# EAGLE library part 16PIN_8X2 (library connector)
2.54mm pitch 8x2 pin Connector (Available as Headers or Pins)
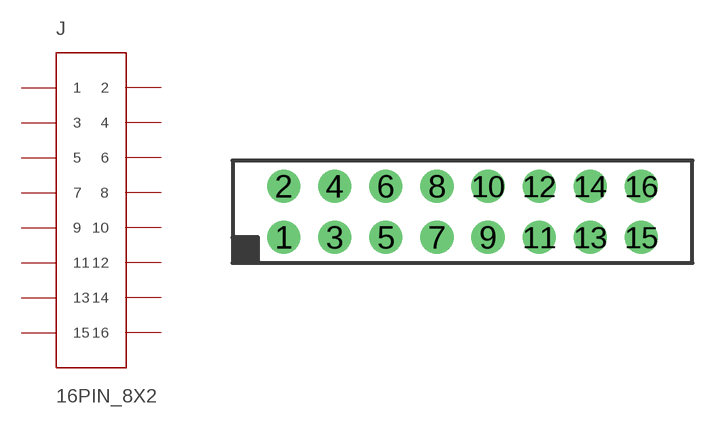
[diagram p3: symbol with the pads of 16PIN_4X2(2.54); footprint 16PIN_4X2(2.54)]

Designator prefix J

## 16PIN_8X2(2.54)  [16PIN_4X2(2.54)]
1  1
2  2
3  3
4  4
5  5
6  6
7  7
8  8
9  9
10  10
11  11
12  12
13  13
14  14
15  15
16  16

## Footprint 16PIN_4X2(2.54) (pad centres in mm)
drill 1.1: 1 -7.62,-1.27; 2 -7.62,1.27; 3 -5.08,-1.27; 4 -5.08,1.27; 5 -2.54,-1.27; 6 -2.54,1.27; 7 0,-1.27; 8 0,1.27; 9 2.54,-1.27; 10 2.54,1.27; 11 5.08,-1.27; 12 5.08,1.27; 13 7.62,-1.27; 14 7.62,1.27; 15 10.16,-1.27; 16 10.16,1.27